# EAGLE library part IDT_ICS501 (library laforge)
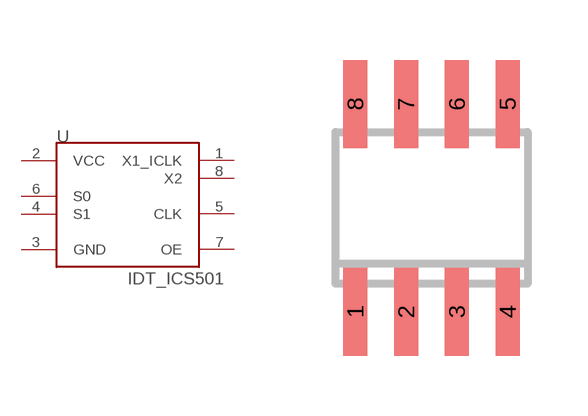
[diagram p12: symbol with the pads of SOIC08; footprint SOIC08]

Designator prefix -

## IDT_ICS501 (OC_DIGIKEY: 800-1036-1-ND)  [SOIC08]
1  X1_ICLK  in
2  VCC  pwr
3  GND  pas
4  S1  in
5  CLK  out
6  S0  in
7  OE  in
8  X2  out

## Footprint SOIC08 (pad centres in mm)
smd 0.6 x 2.2: 1 -1.905,-2.6; 2 -0.635,-2.6; 3 0.635,-2.6; 4 1.905,-2.6; 5 1.905,2.6; 6 0.635,2.6; 7 -0.635,2.6; 8 -1.905,2.6